# Altium footprint library PEI_PCB_1.1.PcbLib: 310 footprints (part 1 of 20)
Each footprint in its own frame and in the unit in brackets; x right, y up, seen from the top. Pads: shape width x height; smd on the part's side, far side on the other; paste and mask are expansions set on the pad; w line width, h text height; cw(c..) or ccw(c..) is an arc to the next point about the centre after c.
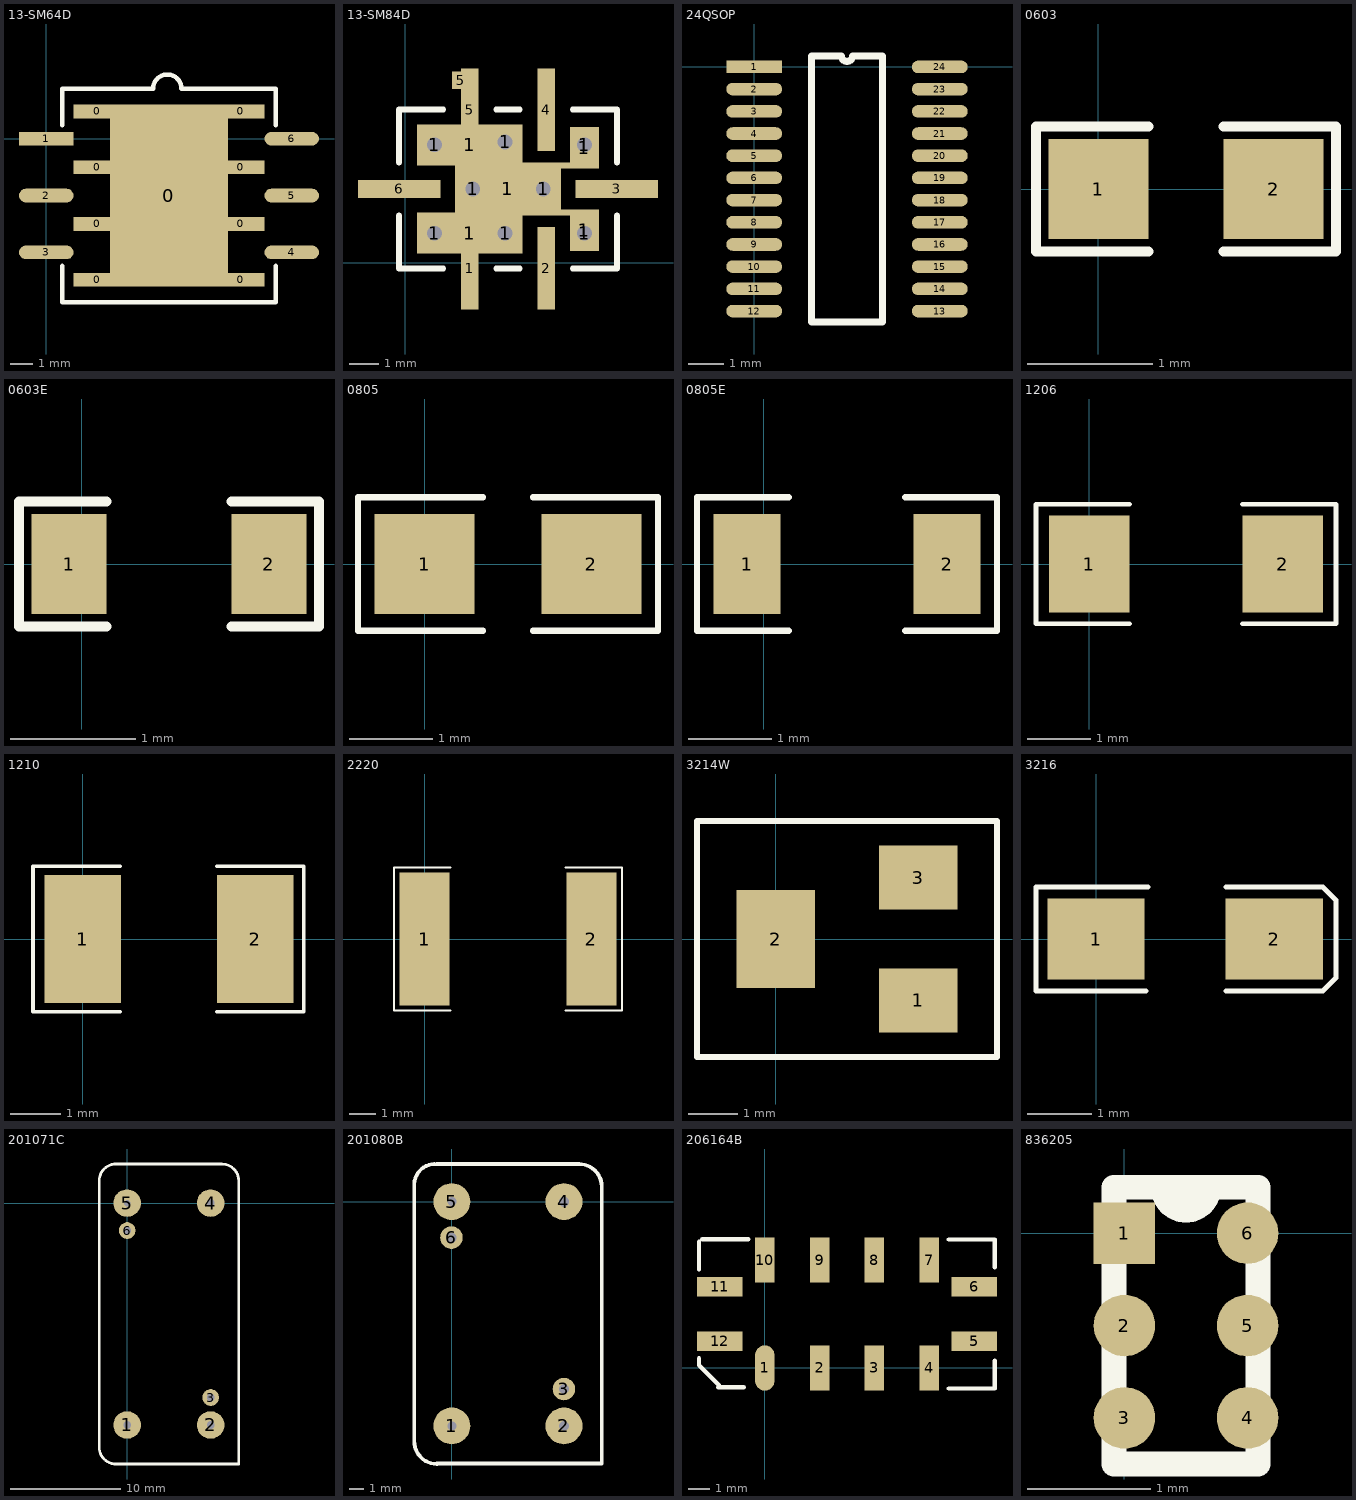
[diagram p0: the footprints below, top view; thin cyan lines are the x and y axes]

## 13-SM64D [mm]
pads (15):
  rect 2.1x0.6 smd: 0(2.25,-6.2) 0(2.25,-3.75) 0(2.25,-1.25) 0(2.25,1.2) 0(8.55,-6.2) 0(8.55,-3.75) 0(8.55,-1.25) 0(8.55,1.2)
  rect 5.2x8 smd: 0(5.4,-2.5)
  rect 2.4x0.6 smd: 1(0,0)
  oval 2.4x0.6 smd: 2(0,-2.5) 3(0,-5) 4(10.8,-5) 5(10.8,-2.5) 6(10.8,0)
TopOverlay:
  lines w0.2: 0.7,-5.6 0.7,-7.2 10.1,-7.2 10.1,-5.6 ; 0.7,0.6 0.7,2.2 4.7,2.2 cw(c5.325,2.2) 5.95,2.2 10.1,2.2 10.1,0.6

## 13-SM84D [mm]
pads (22):
  round 0.8 hole 0.5: 1(1,1) 1(1,4) 1(2.3,2.5) 1(3.4,1) 1(3.4,4.1) 1(4.7,2.5) 1(6.1,1) 1(6.1,4)
  rect 3.6x1.4 smd: 1(2.2,4) 1(2.2,1)
  rect 0.6x2.8 smd: 1(2.2,-0.2) 2(4.8,-0.2) 4(4.8,5.2) 5(2.2,5.2)
  rect 3.6x1.8 smd: 1(3.5,2.5)
  rect 0.8x0.2 smd: 1(5.5,1.7) 1(5.5,3.3)
  rect 1x1.4 smd: 1(6.1,1.1) 1(6.1,3.9)
  rect 2.8x0.6 smd: 3(7.2,2.5) 6(-0.2,2.5)
  rect 0.6x0.6 smd: 5(1.9,6.2)
TopOverlay:
  lines w0.2: -0.2,1.6 -0.2,-0.2 1.3,-0.2 ; -0.2,3.4 -0.2,5.2 1.3,5.2 ; 3.1,-0.2 3.9,-0.2 ; 3.1,5.2 3.9,5.2 ; 5.7,-0.2 7.2,-0.2 7.2,1.6 ; 5.7,5.2 7.2,5.2 7.2,3.4

## 24QSOP [mm]
pads (24):
  rect 1.6x0.36 smd: 1(0,0)
  oval 1.6x0.36 smd: 2(0,-0.635) 3(0,-1.27) 4(0,-1.905) 5(0,-2.54) 6(0,-3.175) 7(0,-3.81) 8(0,-4.445) 9(0,-5.08) 10(0,-5.715) 11(0,-6.35) 12(0,-6.985) 13(5.31,-6.985) 14(5.31,-6.35) 15(5.31,-5.715) 16(5.31,-5.08) 17(5.31,-4.445) 18(5.31,-3.81) 19(5.31,-3.175) 20(5.31,-2.54) 21(5.31,-1.905) 22(5.31,-1.27) 23(5.31,-0.635) 24(5.31,0)
TopOverlay:
  lines w0.2: 1.635,-7.302 1.635,0.318 2.496,0.318 ccw(c2.655,0.318) 2.814,0.317 3.675,0.318 3.675,-7.302 1.635,-7.302

## 0603 [mm]
pads (2):
  rect 0.8x0.8 smd: 1(0,0) 2(1.4,0)
TopOverlay:
  lines w0.076: 0.4,-0.5 -0.5,-0.5 -0.5,0.5 0.4,0.5 ; 1,-0.5 1.9,-0.5 1.9,0.5 1,0.5

## 0603E [mm]
pads (2):
  rect 0.6x0.8 smd: 1(-0.1,0) 2(1.5,0)
TopOverlay:
  lines w0.076: 0.2,-0.5 -0.5,-0.5 -0.5,0.5 0.2,0.5 ; 1.2,-0.5 1.9,-0.5 1.9,0.5 1.2,0.5

## 0805 [mm]
pads (2):
  rect 1.2x1.2 smd: 1(0,0) 2(2,0)
TopOverlay:
  lines w0.076: 0.7,-0.8 -0.8,-0.8 -0.8,0.8 0.7,0.8 ; 1.3,-0.8 2.8,-0.8 2.8,0.8 1.3,0.8

## 0805E [mm]
pads (2):
  rect 0.8x1.2 smd: 1(-0.2,0) 2(2.2,0)
TopOverlay:
  lines w0.076: 0.3,-0.8 -0.8,-0.8 -0.8,0.8 0.3,0.8 ; 1.7,-0.8 2.8,-0.8 2.8,0.8 1.7,0.8

## 1206 [mil]
pads (2):
  rect 50x60 smd: 1(0,0) 2(120,0)
TopOverlay:
  lines w3: 25,-37 -33,-37 -33,37 25,37 ; 95,-37 153,-37 153,37 95,37

## 1210 [mil]
pads (2):
  rect 60x100 smd: 1(0,0) 2(135,0)
TopOverlay:
  lines w3: 29,-57 -39,-57 -39,57 29,57 ; 105,-57 173,-57 173,57 105,57

## 2220 [mm]
pads (2):
  rect 1.905x5.08 smd: 1(0,0) 2(6.35,0)
TopOverlay:
  lines w0.076: 0.991,-2.718 -1.168,-2.718 -1.168,2.718 0.991,2.718 ; 5.359,-2.718 7.518,-2.718 7.518,2.718 5.359,2.718

## 3214W [mm]
pads (3):
  rect 1.6x1.3 smd: 1(2.9,-1.25) 3(2.9,1.25)
  rect 1.6x2 smd: 2(0,0)
TopOverlay:
  lines w0.127: -1.6,-2.4 -1.6,2.4 4.5,2.4 4.5,-2.4 -1.6,-2.4

## 3216 [mil]
pads (2):
  rect 60x50 smd: 1(0,0) 2(110,0)
TopOverlay:
  lines w3: 31,-32 -37,-32 -37,32 32,32 ; 80,-32 140,-32 148,-24 148,24 140,32 80,32

## 201071C [mm]
pads (6):
  round 2.5 hole 0.7: 1(0,-20.2) 2(7.6,-20.2) 4(7.6,0)
  round 1.524 hole 0.7: 3(7.6,-17.7) 6(0,-2.5)
  round 2.5 hole 0.6: 5(0,0)
TopOverlay:
  lines w0.254: -2.541,-22.2 ccw(c-1.016,-22.225) -1,-23.75 10.16,-23.75 10.16,2 ; -2.54,-22.2 -2.54,2 cw(c-1.016,2.032) -0.99,3.556 ; -0.99,3.55 8.61,3.55 cw(c8.636,2.032) 10.154,2.032

## 201080B [mm]
pads (6):
  round 2.5 hole 0.6: 1(0,-15.2) 5(0,0)
  round 2.5 hole 0.7: 2(7.6,-15.2) 4(7.6,0)
  round 1.524 hole 0.7: 3(7.6,-12.7) 6(-0.025,-2.438)
TopOverlay:
  lines w0.254: -1.001,2.54 ccw(c-1.143,1.143) -2.54,1 -2.54,-16.2 -2.54,-16.21 ccw(c-1.016,-16.256) -1,-17.781 ; -1,-17.75 10.16,-17.75 10.16,1 ; -1,2.55 8.61,2.55 ; 8.61,2.54 cw(c8.636,1.016) 10.16,1.016

## 206164B [mm]
pads (12):
  oval 0.9x2.1 smd: 1(0,0)
  rect 0.9x2.1 smd: 2(2.54,0) 3(5.08,0) 4(7.62,0) 7(7.62,5) 8(5.08,5) 9(2.54,5) 10(0,5)
  rect 2.1x0.9 smd: 5(9.71,1.23) 6(9.71,3.77) 11(-2.09,3.77) 12(-2.09,1.23)
TopOverlay:
  lines w0.2: -3.048,0.457 -3.048,0.127 -2.098,-0.823 ; -3.048,4.562 -3.048,5.842 ; -2.902,5.969 -0.762,5.969 ; -2.159,-0.889 -0.969,-0.889 ; 8.52,-0.95 10.66,-0.95 10.66,0.33 ; 8.52,5.95 10.66,5.95 10.66,4.67

## 836205 [mm]
pads (6):
  rect 0.5x0.5 smd: 1(0,0)
  round 0.5 smd: 2(0,-0.75) 3(0,-1.5) 4(1,-1.5) 5(1,-0.75) 6(1,0)
TopOverlay:
  lines w0.2: -0.085,-1.875 -0.085,0.375 0.688,0.375 cw(c0.5,0.375) 0.312,0.375 1.085,0.375 1.085,-1.875 -0.085,-1.875